# Altium footprint library CON4_70543.PcbLib: 1 footprints
Each footprint in its own frame and in the unit in brackets; x right, y up, seen from the top. Pads: shape width x height; smd on the part's side, far side on the other; paste and mask are expansions set on the pad; w line width, h text height; cw(c..) or ccw(c..) is an arc to the next point about the centre after c.
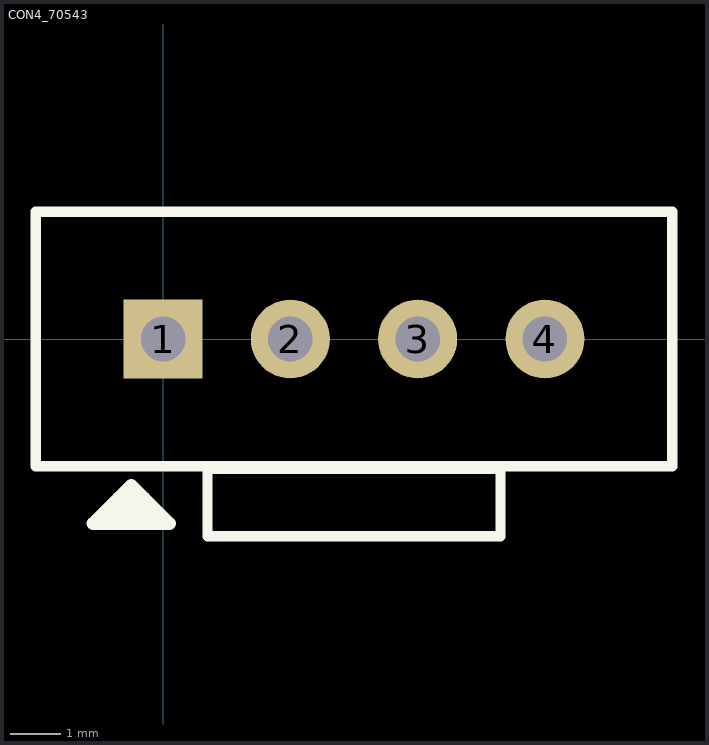
[diagram p0: the footprint, top view; thin cyan lines are the x and y axes]

## CON4_70543 [mil] "Shrouded 4x1 0.1\" pitch"
height 390
pads (4):
  rect 62x62 hole 35: 1(0,0)
  round 62 hole 35: 2(100,0) 3(200,0) 4(300,0)
TopOverlay:
  lines w8: 399.94,-100 265,-100 265,-155 209.96,-155 79.99,-155 35,-155 35,-100 -100,-100 -100,100 400,100 400,-100
  lines w10: -45,-135 -5,-135 ; -35,-125 -15,-125 ; 35,-101 264,-101 ; -55,-145 5,-145 -25,-115 -55,-145
Mechanical4:
  text ".300" at 0,0 h1
  text ".358" at 0,-1 h1
3D body: height 465, standoff -130, extent -100,-160.01 400,99.99